# EAGLE library part BQ76925 (library tmxk)
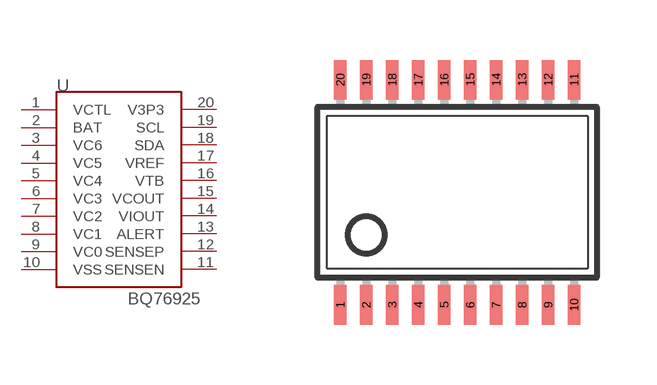
[diagram p8: symbol with the pads of TSSOP20; footprint TSSOP20]

Designator prefix U

## BQ76925TSSOP20  [TSSOP20]
1  VCTL
2  BAT
3  VC6
4  VC5
5  VC4
6  VC3
7  VC2
8  VC1
9  VC0
10  VSS
11  SENSEN
12  SENSEP
13  ALERT
14  VIOUT
15  VCOUT
16  VTB
17  VREF
18  SDA
19  SCL
20  V3P3

## Footprint TSSOP20 (pad centres in mm)
Thin Shrink Small Outline Plastic 20 Source: http://www.lsicsi.com/pdfs/Drawings/TSSOP_OD.pdf
smd 0.305 x 0.991: 1 -2.925,-2.818; 2 -2.275,-2.818; 3 -1.625,-2.818; 4 -0.975,-2.818; 5 -0.325,-2.818; 6 0.325,-2.818; 7 0.975,-2.818; 8 1.625,-2.818; 9 2.275,-2.818; 10 2.925,-2.818; 11 2.925,2.818; 12 2.275,2.818; 13 1.625,2.818; 14 0.975,2.818; 15 0.325,2.818; 16 -0.325,2.818; 17 -0.975,2.818; 18 -1.625,2.818; 19 -2.275,2.818; 20 -2.925,2.818